# EAGLE library part 1720686 (library power_connectors)
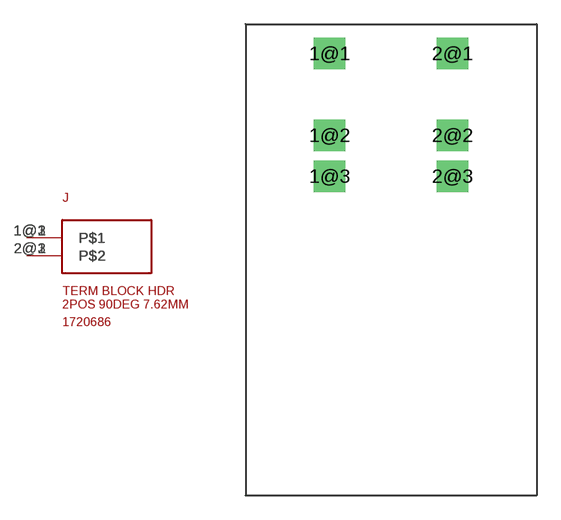
[diagram p0: symbol with the pads of TERM-2POS-7.62MM-1720686; footprint TERM-2POS-7.62MM-1720686]

Designator prefix J

## 1720686  [TERM-2POS-7.62MM-1720686]
1@1  P$1
1@2  P$1
1@3  P$1
2@1  P$2
2@2  P$2
2@3  P$2

## Footprint TERM-2POS-7.62MM-1720686 (pad centres in mm)
drill 1.3 square: 1@1 0,0; 1@2 0,-5.08; 1@3 0,-7.62; 2@1 7.62,0; 2@2 7.62,-5.08; 2@3 7.62,-7.62